# Altium integrated library WE-SHC Shielding Cabinet.IntLib: 10 symbols
Pins are listed as number, name and electrical type; pins without a type are passive.

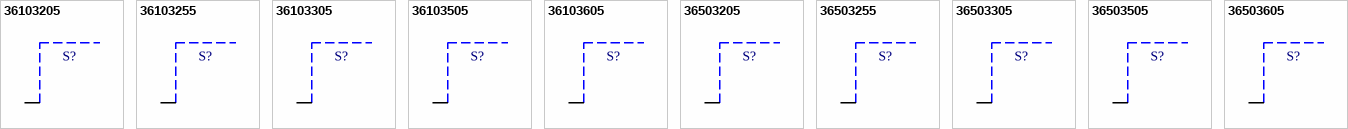
[diagram p0: symbols 36103205 to 36503605]

## 36103205
designator S?
Shielding Cabinet WE-SHC; PartNumber: 36103205; PackageReference: WE-SHC, 36103205; ComponentLink1Description: Manufacturer URL; ComponentLink1URL: http://www.we-online.com; ComponentLink2Description: Datasheet; ComponentLink2URL: http://katalog.we-online.de/kataloge/eisos/media/pdf/36103205.pdf
footprint WE-SHC, 36103205 (Shielding Cabinet WE-SHC,FRAME SMD,20mmX20mm)
pins: 1

## 36103255
designator S?
Shielding Cabinet WE-SHC; PartNumber: 36103255; PackageReference: WE-SHC, 36103255; ComponentLink1Description: Manufacturer URL; ComponentLink1URL: http://www.we-online.com; ComponentLink2Description: Datasheet; ComponentLink2URL: http://katalog.we-online.de/kataloge/eisos/media/pdf/36103255.pdf
footprint WE-SHC, 36103255 (Shielding Cabinet WE-SHC,FRAME SMD,25mmX25mm)
pins: 1

## 36103305
designator S?
Shielding Cabinet WE-SHC; PartNumber: 36103305; PackageReference: WE-SHC, 36103305; ComponentLink1Description: Manufacturer URL; ComponentLink1URL: http://www.we-online.com; ComponentLink2Description: Datasheet; ComponentLink2URL: http://katalog.we-online.de/kataloge/eisos/media/pdf/36103305.pdf
footprint WE-SHC, 36103305 (Shielding Cabinet WE-SHC,FRAME SMD,30mmX30mm)
pins: 1

## 36103505
designator S?
Shielding Cabinet WE-SHC; PartNumber: 36103505; PackageReference: WE-SHC, 36103505; ComponentLink1Description: Manufacturer URL; ComponentLink1URL: http://www.we-online.com; ComponentLink2Description: Datasheet; ComponentLink2URL: http://katalog.we-online.de/kataloge/eisos/media/pdf/36103505.pdf
footprint WE-SHC, 36103505 (Shielding Cabinet WE-SHC,FRAME SMD,50mmX50mm)
pins: 1

## 36103605
designator S?
Shielding Cabinet WE-SHC; PartNumber: 36103605; PackageReference: WE-SHC, 36103605; ComponentLink1Description: Manufacturer URL; ComponentLink1URL: http://www.we-online.com; ComponentLink2Description: Datasheet; ComponentLink2URL: http://katalog.we-online.de/kataloge/eisos/media/pdf/36103605.pdf
footprint WE-SHC, 36103605 (Shielding Cabinet WE-SHC,FRAME SMD,60mmX60mm)
pins: 1

## 36503205
designator S?
Shielding Cabinet WE-SHC; PartNumber: 36503205; PackageReference: WE-SHC, 36503205; ComponentLink1Description: Manufacturer URL; ComponentLink1URL: http://www.we-online.com; ComponentLink2Description: Datasheet; ComponentLink2URL: http://katalog.we-online.de/kataloge/eisos/media/pdf/36503205.pdf
footprint WE-SHC, 36503205 (Shielding Cabinet WE-SHC,FRAME THT,20mmX20mm)
pins: 1

## 36503255
designator S?
Shielding Cabinet WE-SHC; PartNumber: 36503255; PackageReference: WE-SHC, 36503255; ComponentLink1Description: Manufacturer URL; ComponentLink1URL: http://www.we-online.com; ComponentLink2Description: Datasheet; ComponentLink2URL: http://katalog.we-online.de/kataloge/eisos/media/pdf/36503255.pdf
footprint WE-SHC, 36503255 (Shielding Cabinet WE-SHC,FRAME THT,25mmX25mm)
pins: 1

## 36503305
designator S?
Shielding Cabinet WE-SHC; PartNumber: 36503305; PackageReference: WE-SHC, 36503305; ComponentLink1Description: Manufacturer URL; ComponentLink1URL: http://www.we-online.com; ComponentLink2Description: Datasheet; ComponentLink2URL: http://katalog.we-online.de/kataloge/eisos/media/pdf/36503305.pdf
footprint WE-SHC, 36503305 (Shielding Cabinet WE-SHC,FRAME THT,30mmX30mm)
pins: 1

## 36503505
designator S?
Shielding Cabinet WE-SHC; PartNumber: 36503505; PackageReference: WE-SHC, 36503505; ComponentLink1Description: Manufacturer URL; ComponentLink1URL: http://www.we-online.com; ComponentLink2Description: Datasheet; ComponentLink2URL: http://katalog.we-online.de/kataloge/eisos/media/pdf/36503505.pdf
footprint WE-SHC, 36503505 (Shielding Cabinet WE-SHC,FRAME THT,50mmX50mm)
pins: 1

## 36503605
designator S?
Shielding Cabinet WE-SHC; PartNumber: 36503605; PackageReference: WE-SHC, 36503605; ComponentLink1Description: Manufacturer URL; ComponentLink1URL: http://www.we-online.com; ComponentLink2Description: Datasheet; ComponentLink2URL: http://katalog.we-online.de/kataloge/eisos/media/pdf/36503605.pdf
footprint WE-SHC, 36503605 (Shielding Cabinet WE-SHC,FRAME THT,60mmX60mm)
pins: 1